# EAGLE library part BR_COMP_SOCKET (library PikiTech)
Socket for bridge completion card
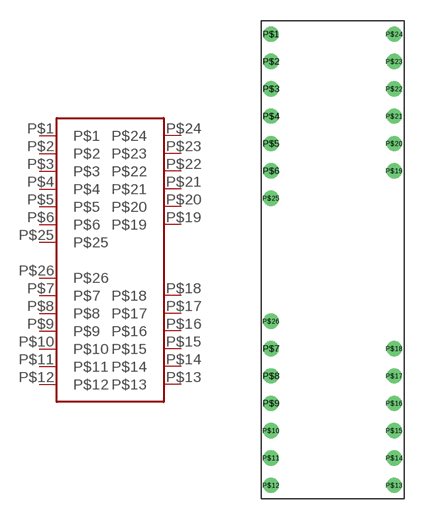
[diagram p4: symbol with the pads of BR_COMP_SOCKET; footprint BR_COMP_SOCKET]

Designator prefix -

## BR_COMP_SOCKET  [BR_COMP_SOCKET]
P$1  P$1
P$2  P$2
P$3  P$3
P$4  P$4
P$5  P$5
P$6  P$6
P$7  P$7
P$8  P$8
P$9  P$9
P$10  P$10
P$11  P$11
P$12  P$12
P$13  P$13
P$14  P$14
P$15  P$15
P$16  P$16
P$17  P$17
P$18  P$18
P$19  P$19
P$20  P$20
P$21  P$21
P$22  P$22
P$23  P$23
P$24  P$24
P$25  P$25
P$26  P$26

## Footprint BR_COMP_SOCKET (pad centres in mm)
Socket for bridge completion card
drill 0.6: P$1 -4,16; P$2 -4,14; P$3 -4,12; P$4 -4,10; P$5 -4,8; P$6 -4,6; P$7 -4,-7; P$8 -4,-9; P$9 -4,-11; P$10 -4,-13; P$11 -4,-15; P$12 -4,-17; P$13 5,-17; P$14 5,-15; P$15 5,-13; P$16 5,-11; P$17 5,-9; P$18 5,-7; P$19 5,6; P$20 5,8; P$21 5,10; P$22 5,12; P$23 5,14; P$24 5,16; P$25 -4,4; P$26 -4,-5